# Altium footprint library Diode SMA (DO-214AC).PcbLib: 1 footprints
Each footprint in its own frame and in the unit in brackets; x right, y up, seen from the top. Pads: shape width x height; smd on the part's side, far side on the other; paste and mask are expansions set on the pad; w line width, h text height; cw(c..) or ccw(c..) is an arc to the next point about the centre after c.
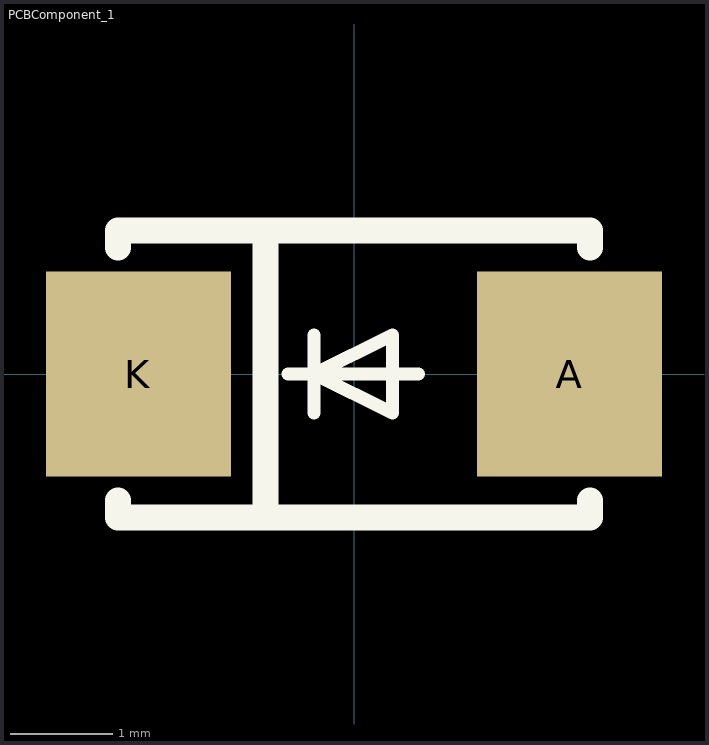
[diagram p0: the footprint, top view; thin cyan lines are the x and y axes]

## PCBComponent_1 [mm]
pads (2):
  rect 1.8x2 smd: A(2.1,0) K(-2.1,0)
Top Overlay:
  lines w0.127: -0.643,0 0.627,0 ; -0.389,-0.381 -0.389,0 ; -0.389,0.381 -0.389,0 ; -0.389,0 0.373,-0.381 0.373,0 0.373,0.381 -0.389,0
  lines w0.254: -2.3,-1.231 -2.3,-1.4 2.3,-1.4 2.3,-1.231 ; -2.3,1.231 -2.3,1.4 2.3,1.4 2.3,1.231 ; -0.864,-1.4 -0.864,1.4
Mechanical 15:
  lines w0.003: -0.025,0.107 0.025,0.158
3D body "User Library-DO-214AC SMA (1).step": height 2.48, standoff 0.07, extent -2.6,-1.3 2.6,1.3